# Altium schematic symbol library SCH - CONNECTORS - SAMTEC - IPL1-109-XX-X-D-X.SCHLIB: 1 symbol
Pins are listed as number, name and electrical type; pins without a type are passive.

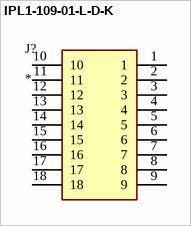
[diagram p0: symbol IPL1-109-01-L-D-K]

## IPL1-109-01-L-D-K
designator J?
Connector; Manufacturer_Name: SAMTEC; Manufacturer_Part_Number: IPL1-109-01-L-D-K; Datasheet Link: http://suddendocs.samtec.com/prints/ipl1-1xx-xx-xxx-d-xx-x-xx-mkt.pdf; Mouser Part Number: 200-IPL110901LDK; Mouser Price/Stock: https://www.mouser.co.uk/ProductDetail/Samtec/IPL1-109-01-L-D-K?qs=PB6%2FjmICvI0b009ElXUgJg%3D%3D; Arrow Part Number: IPL1-109-01-L-D-K; Arrow Price/Stock: https://www.arrow.com/en/products/ipl1-109-01-l-d-k/samtec
footprint IPL1-109-01-YYY-D-K
pins: 1, 2, 3, 4, 5, 6, 7, 8, 9, 10, 11, 12, 13, 14, 15, 16, 17, 18